# EAGLE library part SI4330 (library Ava)
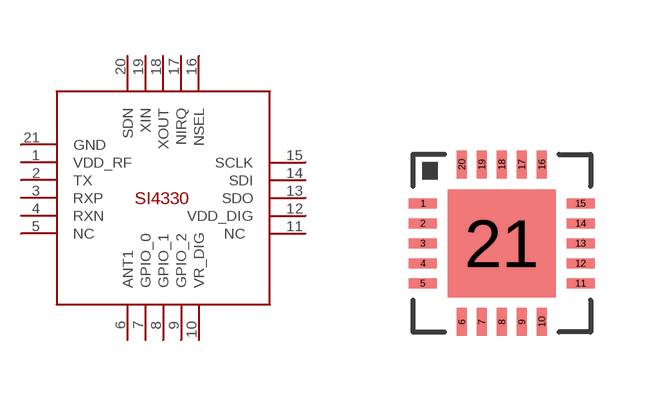
[diagram p11: symbol with the pads of QFN20+GNDPAD; footprint QFN20+GNDPAD]

Designator prefix -

## SI4330  [QFN20+GNDPAD]
1  VDD_RF
2  TX
3  RXP
4  RXN
5  NC
6  ANT1
7  GPIO_0
8  GPIO_1
9  GPIO_2
10  VR_DIG
11  NC
12  VDD_DIG
13  SDO
14  SDI
15  SCLK
16  NSEL
17  NIRQ
18  XOUT
19  XIN
20  SDN
21  GND

## Footprint QFN20+GNDPAD (pad centres in mm)
smd 0.7 x 0.25: 1 -1.97,1; 2 -1.97,0.5; 3 -1.97,0; 4 -1.97,-0.5; 5 -1.97,-1; 11 1.97,-1; 12 1.97,-0.5; 13 1.97,0; 14 1.97,0.5; 15 1.97,1
smd 0.25 x 0.7: 6 -1,-1.97; 7 -0.5,-1.97; 8 0,-1.97; 9 0.5,-1.97; 10 1,-1.97; 16 1,1.97; 17 0.5,1.97; 18 0,1.97; 19 -0.5,1.97; 20 -1,1.97
smd 2.7 x 2.7: 21 0,0